# Altium schematic symbol library Header_TE_Connectivity_826926-3_3POS_5A.SchLib: 1 symbol
Pins are listed as number, name and electrical type; pins without a type are passive.

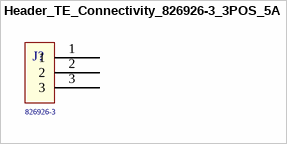
[diagram p0: symbol Header_TE_Connectivity_826926-3_3POS_5A]

## Header_TE_Connectivity_826926-3_3POS_5A
designator J?  Series: 826926-3  (hidden comment: Header_TE_Connectivity_826926-3_3POS_5A)
Headers & Wire Housings 1X03 POS VERT TIN 5A; Supplier Part Number 1: 571-826926-3; Supplier 1: Mouser
footprint Header_TE_Connectivity_826926-3_3POS_5A
pins: 1, 2, 3